# EAGLE library part ANALOG_DEVICES_INC_ADM3260ARSZ (library Upverter Library)
Digital Isolator, 2 Channel, 3 V, 5.5 V, SSOP, 20 Pins
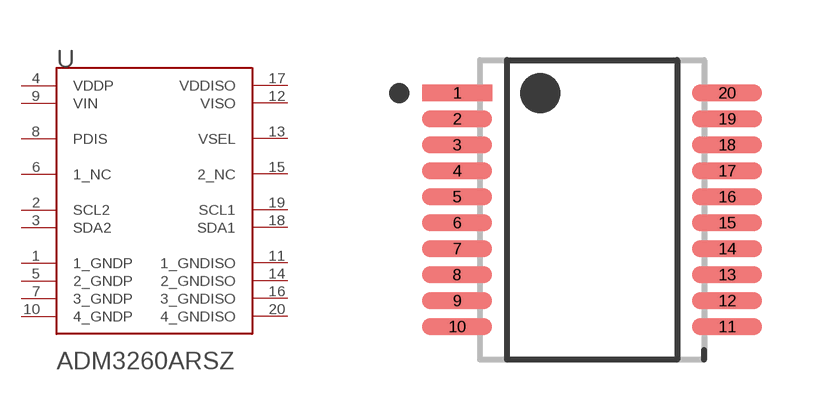
[diagram p0: symbol with the pads of ANALOG_DEVICES_INC_ADM3260ARSZ_0; footprint ANALOG_DEVICES_INC_ADM3260ARSZ_0]

Designator prefix U

## ANALOG_DEVICES_INC_ADM3260ARSZANALOG_DEVICES_INC_ADM3260ARSZ_0_0 (MF: Analog Devices Inc; MPN: ADM3260ARSZ; ambient_temperature_range_high: +105°C; ambient_temperature_range_low: -40°C; centroid_not_specified: No; datasheet: http://www.analog.com/media/en/technical-documentation/data-sheets/ADM3260.pdf; device_class_L1: Integrated Circuits (ICs); device_class_L2: Power Management ICs; device_class_L3: Hot Swap Controllers; digikey_description: IC DGTL ISO 2.5KV 2CH I2C 20SSOP; digikey_part_number: ADM3260ARSZ-ND; footprint_parameters_0: {"fp_type":"SSOP","params":{"N":{"nom":20,"long name":"Number of leads","min":null,"max":null,"short name":"N","type":"count"},"A":{"nom":false,"long name":"Height","min":false,"max":2000000,"short name":"A","type":"measurement"},"A1":{"nom":false,"long name":"Package clearance","min":50000,"max":false,"short name":"A1","type":"measurement"},"A2":{"nom":1750000,"long name":"Package height","min":1650000,"max":1850000,"short name":"A2","type":"measurement"},"E":{"nom":7800000,"long name":"Width /w leads","min":7400000,"max":8200000,"short name":"E","type":"measurement"},"E1":{"nom":5300000,"long name":"Package width","min":5000000,"max":5600000,"short name":"E1","type":"measurement"},"D":{"nom":7200000,"long name":"Package length","min":6900000,"max":7500000,"short name":"D","type":"measurement"},"B":{"nom":false,"long name":"Lead width","min":220000,"max":380000,"short name":"B","type":"measurement"},"C":{"nom":false,"long name":"Lead thickness","min":90000,"max":250000,"short name":"C","type":"measurement"},"L":{"nom":750000,"long name":"Lead foot length","min":550000,"max":950000,"short name":"L","type":"measurement"},"e":{"nom":650000,"long name":"Lead pitch","min":null,"max":null,"short name":"e","type":"measurement"},"PHI":{"nom":false,"long name":"Lead angle","min":0,"max":8,"short name":"PHI","type":"measurement"},"HT":{"default":"No","long name":"Thermal pad","type":"multichoiceparent","short name":"HT","children":[]},"offset x":{"nom":0,"long name":"X Center offset","min":null,"max":null,"short name":"offset x","type":"measurement"},"offset y":{"nom":0,"long name":"Y Center offset","min":null,"max":null,"short name":"offset y","type":"measurement"},"LS":{"default":"Rounded rectangle","long name":"Land shape","type":"multichoice","short name":"LS"},"LS1":{"default":"Rectangle","long name":"Land shape (Pin 1)","type":"multichoice","short name":"LS1"},"solder toe":{"nom":150000,"long name":"Solder fillet (toe)","min":null,"max":null,"short name":"solder toe","type":"fixedmeasurement"},"solder heel":{"nom":250000,"long name":"Solder fillet (heel)","min":null,"max":null,"short name":"solder heel","type":"fixedmeasurement"},"solder side":{"nom":10000,"long name":"Solder fillet (side)","min":null,"max":null,"short name":"solder side","type":"fixedmeasurement"},"courtyard":{"nom":100000,"long name":"Courtyard","min":null,"max":null,"short name":"courtyard","type":"fixedmeasurement"},"SF":{"default":"C","long name":"Packing level","type":"multichoiceparent","short name":"SF","help":"http://support.upverter.com/customer/portal/articles/978783-what-is-a-footprint-packing-level","children":["solder toe","solder heel","solder side","courtyard"]}}}; height: 2mm; ipc_land_pattern_name: SOP65P780X200-20; lead_free: yes; max_supply_voltage: 5.5V; mfg_package_ident: RS-20; mfg_package_ident_date: 0; mfg_package_ident_rev: A; min_supply_voltage: 3V; mouser_description: Digital Isolators Iso, Dual I2C w/DC to DC conv; mouser_part_number: 584-ADM3260ARSZ; number_of_channels: 2; number_of_outputs: 2; output_current: 30mA; output_voltage: 3-5.5V; package: SSOP20; pin_0_0_3_inside_edge: clock; pin_0_0_4_inside_edge: clock; prefix: U; rohs: yes; standoff_height: 0.05mm; temperature_range_high: +105°C; temperature_range_low: -40°C; verification_version: 0.0.0.1)  [ANALOG_DEVICES_INC_ADM3260ARSZ_0]
1  1_GNDP  pwr
2  SCL2
3  SDA2
4  VDDP  pwr
5  2_GNDP  pwr
6  1_NC  pas
7  3_GNDP  pwr
8  PDIS  in
9  VIN  pwr
10  4_GNDP  pwr
11  1_GNDISO  pwr
12  VISO  pwr
13  VSEL  in
14  2_GNDISO  pwr
15  2_NC  pas
16  3_GNDISO  pwr
17  VDDISO  pwr
18  SDA1
19  SCL1
20  4_GNDISO  pwr

## Footprint ANALOG_DEVICES_INC_ADM3260ARSZ_0 (pad centres in mm)
Digital Isolator, 2 Channel, 3 V, 5.5 V, SSOP, 20 Pins
smd 1.753 x 0.415: 1 -3.375,2.925; 2 -3.375,2.275; 3 -3.375,1.625; 4 -3.375,0.975; 5 -3.375,0.325; 6 -3.375,-0.325; 7 -3.375,-0.975; 8 -3.375,-1.625; 9 -3.375,-2.275; 10 -3.375,-2.925; 11 3.375,-2.925; 12 3.375,-2.275; 13 3.375,-1.625; 14 3.375,-0.975; 15 3.375,-0.325; 16 3.375,0.325; 17 3.375,0.975; 18 3.375,1.625; 19 3.375,2.275; 20 3.375,2.925